# Altium footprint library O_JonF_DaveL.PcbLib: 331 footprints (part 15 of 21)
Each footprint in its own frame and in the unit in brackets; x right, y up, seen from the top. Pads: shape width x height; smd on the part's side, far side on the other; paste and mask are expansions set on the pad; w line width, h text height; cw(c..) or ccw(c..) is an arc to the next point about the centre after c.
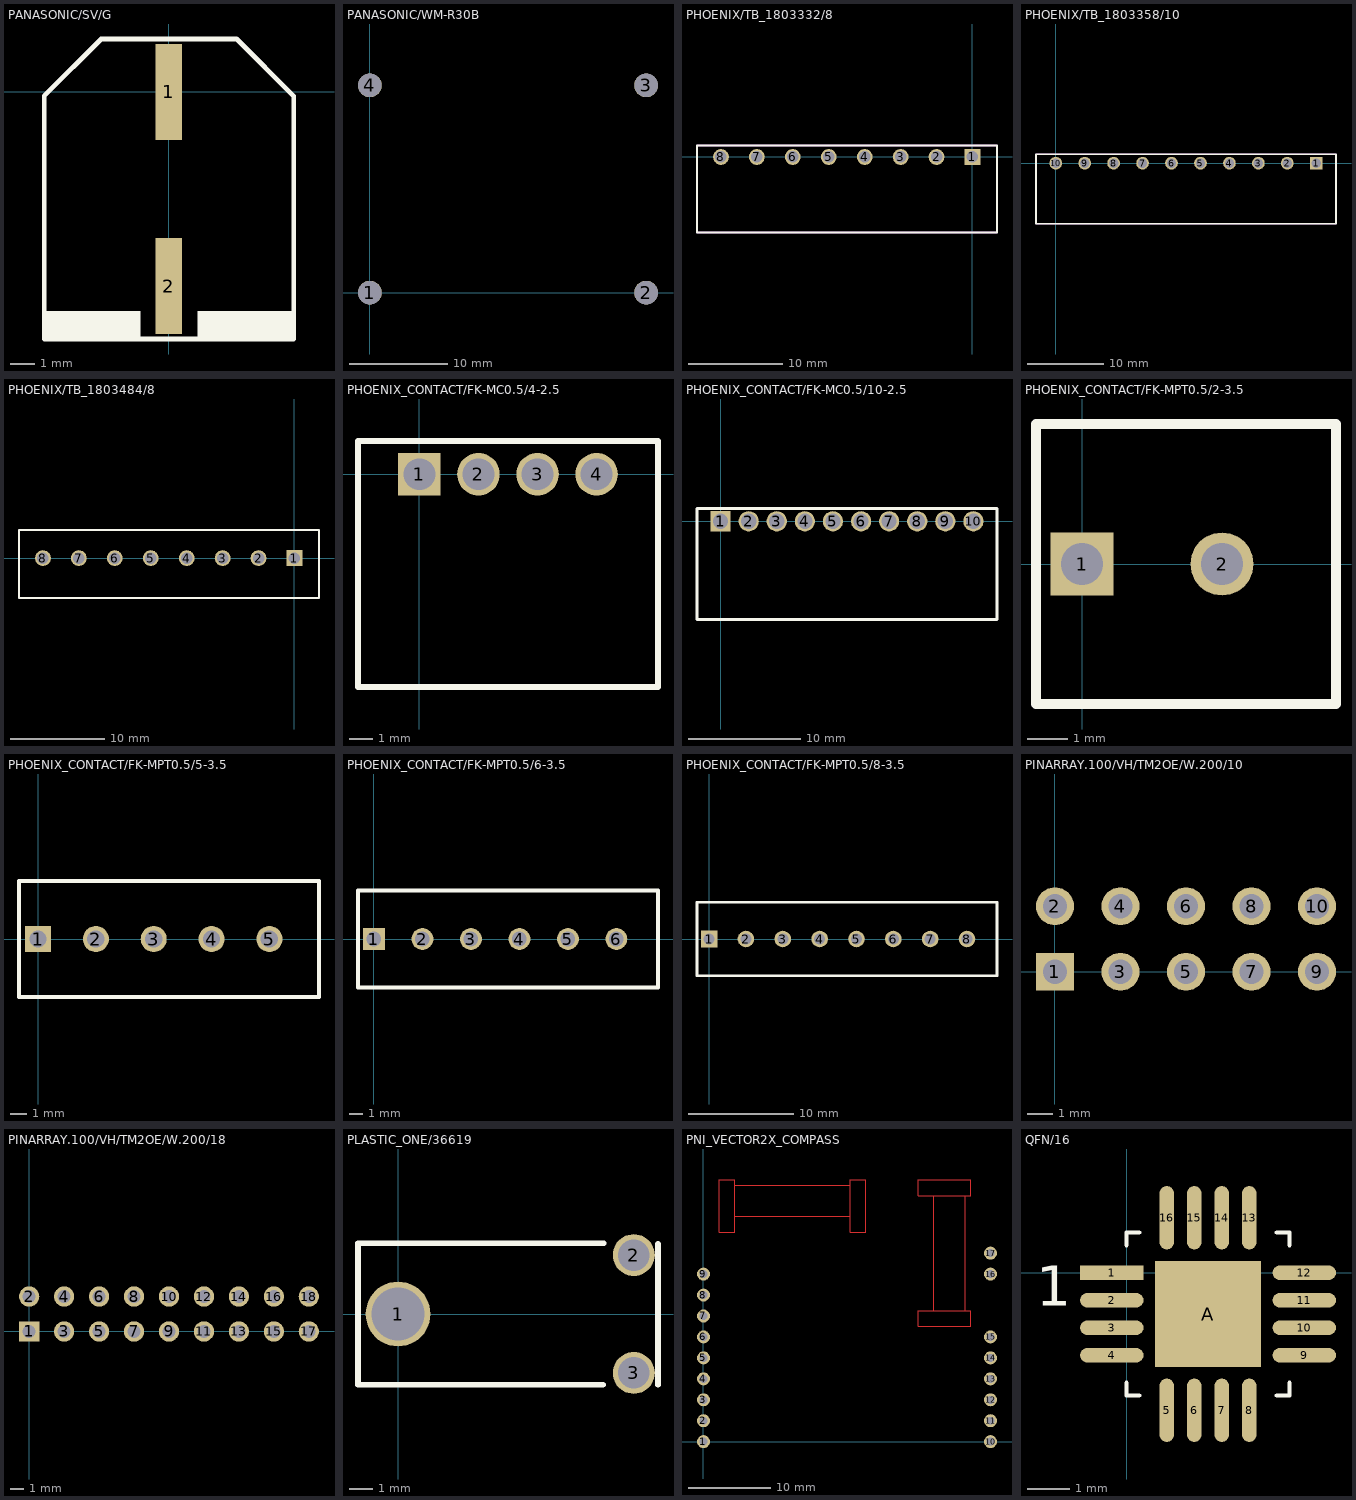
[diagram p14: the footprints below, top view; thin cyan lines are the x and y axes]

## PANASONIC/SV/G [mm]
pads (2):
  rect 1.1x4 smd: 1(0,0) 2(0,-8.1)
Top Overlay:
  region: -1.202,-9.137 -1.201,-9.137 -1.201,-10.198 -1.202,-10.198 -1.202,-10.199 -5.096,-10.199 -5.096,-10.198 -5.097,-10.198 -5.097,-9.137 -5.096,-9.137 -5.096,-9.136 -1.202,-9.136
  region: 5.099,-9.137 5.1,-9.137 5.1,-10.198 5.099,-10.198 5.099,-10.199 1.205,-10.199 1.205,-10.198 1.204,-10.198 1.204,-9.137 1.205,-9.137 1.205,-9.136 5.099,-9.136
  lines w0.2: -5.197,-10.3 -5.197,-0.166 -2.826,2.205 2.824,2.205 5.202,-0.173 5.202,-10.3 -5.197,-10.3
  text ".Designator" at -5.25,-12.12 h0.95
Mechanical 1:
  text ".Designator" at -5.25,-12.12 h0.95
  text ".Pattern" at -5.25,-16.488 h0.95
  text ".Comment" at -5.315,-13.533 h0.95

## PANASONIC/WM-R30B [mm]
pads (4):
  round 2.4 hole 2.4: 1(0,0) 2(28,0) 3(28,21) 4(0,21)
Top Overlay:
  text ".Designator" at 0,9 h1.5
Mechanical 1:
  text ".Designator" at 0,9 h1.5
  text ".Comment" at 0,6 h1.5
  text ".Pattern" at 0,0 h1.5

## PHOENIX/TB_1803332/8 [mil]
height 314.96
pads (8):
  rect 66x66 / inner round 66 / far side rect 66x66 hole 48: 1(0,0)
  round 66 hole 48: 2(-150,0) 3(-300,0) 4(-450,0) 5(-600,0) 6(-750,0) 7(-900,0) 8(-1050,0)
Top Overlay:
  lines w8: -1150,-314.97 -1150,47.25 102.37,47.25 102.37,-314.97 -1150,-314.97
Mechanical 1:
  lines w8: -1150,-314.97 -1150,47.25 102.37,47.25 102.37,-314.97 -1150,-314.97

## PHOENIX/TB_1803358/10 [mil]
pads (10):
  rect 66x66 / inner round 66 / far side rect 66x66 hole 48: 1(1350,0)
  round 66 hole 48: 2(1200,0) 3(1050,0) 4(900,0) 5(750,0) 6(600,0) 7(450,0) 8(300,0) 9(150,0) 10(0,0)
Top Overlay:
  lines w8: -102.37,-314.97 -102.37,47.25 1452.37,47.25 1452.37,-314.97 -102.37,-314.97
Mechanical 1:
  lines w8: -102.37,-314.97 -102.37,47.25 1452.37,47.25 1452.37,-314.97 -102.37,-314.97

## PHOENIX/TB_1803484/8 [mil]
height 314.96
pads (8):
  rect 66x66 / inner round 66 / far side rect 66x66 hole 48: 1(0,0)
  round 66 hole 48: 2(-150,0) 3(-300,0) 4(-450,0) 5(-600,0) 6(-750,0) 7(-900,0) 8(-1050,0)
Top Overlay:
  lines w8: -1150,-167.32 102.37,-167.32 102.37,118.11 -1150,118.11 -1150,-167.32
Mechanical 1:
  text "Plug Overhangs This Area" at -757.87,167.32 h20.63
  text "Wires Enter Close to this edge, perpendicular to the plane" at -1102.36,88.58 h20.63
  text "Screw Access is closer to this edge" at -866.14,-147.64 h20.63

## PHOENIX_CONTACT/FK-MC0.5/4-2.5 [mm]
pads (4):
  rect 1.8x1.8 hole 1.35: 1(0,0)
  round 1.8 hole 1.35: 2(2.5,0) 3(5,0) 4(7.5,0)
Top Overlay:
  lines w0.254: -2.6,-9 -2.6,1.4 10.1,1.4 10.1,-9 -2.6,-9
  text ".Designator" at -1,-6 h0.95
Mechanical 1:
  text ".Comment" at -1,-8 h0.95
  text ".Designator" at -1,-6 h0.95
  text ".Pattern" at -1,-12 h0.95

## PHOENIX_CONTACT/FK-MC0.5/10-2.5 [mm]
pads (10):
  rect 1.8x1.8 hole 1.35: 1(0,0)
  round 1.8 hole 1.35: 2(2.5,0) 3(5,0) 4(7.5,0) 5(10,0) 6(12.5,0) 7(15,0) 8(17.5,0) 9(20,0) 10(22.5,0)
Top Overlay:
  lines w0.254: -2.1,-8.75 24.6,-8.75 24.6,1.15 -2.1,1.15 -2.1,-8.75

## PHOENIX_CONTACT/FK-MPT0.5/2-3.5 [mil]
pads (2):
  rect 62x62 hole 41.34: 1(0,0)
  round 62 hole 41.34: 2(137.8,0)
Top Overlay:
  lines w10: -45.28,-137.8 -45.28,137.8 250,137.8 250,-137.8 -45.28,-137.8
  text ".Designator" at -39.37,-236.22 h37.5
Mechanical 1:
  text ".Designator" at -39.37,-236.22 h37.5
  text ".Comment" at -39.37,-314.96 h37.5
  text ".Pattern" at -39.37,-472.44 h37.5

## PHOENIX_CONTACT/FK-MPT0.5/5-3.5 [mil]
pads (5):
  rect 62x62 hole 41.34: 1(0,0)
  round 62 hole 41.34: 2(137.8,0) 3(275.59,0) 4(413.39,0) 5(551.18,0)
Top Overlay:
  lines w10: -45.28,-137.8 669.29,-137.8 669.29,137.8 -45.28,137.8 -45.28,-137.8
  text ".Designator" at -39.37,-236.22 h37.5
Mechanical 1:
  text ".Designator" at -39.37,-236.22 h37.5
  text ".Comment" at -39.37,-314.96 h37.5
  text ".Pattern" at -39.37,-472.44 h37.5

## PHOENIX_CONTACT/FK-MPT0.5/6-3.5 [mil]
pads (6):
  rect 62x62 hole 41.34: 1(0,0)
  round 62 hole 41.34: 2(137.8,0) 3(275.59,0) 4(413.39,0) 5(551.18,0) 6(688.98,0)
Top Overlay:
  lines w10: -45.28,-137.8 -45.28,137.8 807.09,137.8 807.09,-137.8 -45.28,-137.8
  text ".Designator" at -39.37,-236.22 h37.5
Mechanical 1:
  text ".Pattern" at -39.37,-472.44 h37.5
  text ".Comment" at -39.37,-314.96 h37.5
  text ".Designator" at -39.37,-236.22 h37.5

## PHOENIX_CONTACT/FK-MPT0.5/8-3.5 [mil]
pads (8):
  rect 62x62 hole 41.34: 1(0,0)
  round 62 hole 41.34: 2(137.8,0) 3(275.59,0) 4(413.39,0) 5(551.18,0) 6(688.98,0) 7(826.77,0) 8(964.57,0)
Top Overlay:
  lines w10: -45.28,-137.8 -45.28,137.8 1076.77,137.8 1076.77,-137.8 -45.28,-137.8

## PINARRAY.100/VH/TM2OE/W.200/10 [mil]
pads (10):
  rect 58x58 hole 37: 1(0,0)
  round 58 hole 37: 2(0,100) 3(100,0) 4(100,100) 5(200,0) 6(200,100) 7(300,0) 8(300,100) 9(400,0) 10(400,100)
Mechanical 1:
  text ".Comment" at -34.33,25.38 h37.5

## PINARRAY.100/VH/TM2OE/W.200/18 [mil]
pads (18):
  rect 58x58 hole 37: 1(0,0)
  round 58 hole 37: 2(0,100) 3(100,0) 4(100,100) 5(200,0) 6(200,100) 7(300,0) 8(300,100) 9(400,0) 10(400,100) 11(500,0) 12(500,100) 13(600,0) 14(600,100) 15(700,0) 16(700,100) 17(800,0) 18(800,100)
Mechanical 1:
  text ".Comment" at -34.33,25.38 h37.5

## PLASTIC_ONE/36619 [mil]
pads (3):
  round 110 hole 90: 1(0,0)
  round 71 hole 53.5: 2(400,100) 3(400,-100)
Top Overlay:
  lines w10: 348,-120 -68,-120 -68,120 349,120 ; 441,-120 441,119
  text ".Designator" at -69,-193.5 h37.5
Mechanical 1:
  text ".Designator" at -69,-193.5 h37.5
  text ".Comment" at -30,-1 h37.5
  text ".Pattern" at -19,-103 h37.5

## PNI_VECTOR2X_COMPASS [mil]
pads (17):
  round 62 hole 38: 1(0,0) 2(0,100) 3(0,200) 4(0,300) 5(0,400) 6(0,500) 7(0,600) 8(0,700) 9(0,800) 10(1370,0) 11(1370,100) 12(1370,200) 13(1370,300) 14(1370,400) 15(1370,500) 16(1370,800) 17(1370,900)
Top Layer:
  lines w1: 75,1000 150,1000 150,1250 75,1250 75,1000 ; 150,1075 150,1225 700,1225 700,1075 150,1075 ; 700,1000 775,1000 775,1250 700,1250 700,1000 ; 1025,550 1025,625 1275,625 1275,550 1025,550 ; 1025,1175 1275,1175 1275,1250 1025,1250 1025,1175 ; 1100,625 1100,1175 1250,1175 1250,625 1100,625
Top Overlay:
  text ".Designator" at 175,762.5 h56.25
Mechanical 1:
  text ".Designator" at 175,762.5 h56.25
  text ".Comment" at 175,650 h56.25
  text ".Pattern" at 200,-75 h56.25

## QFN/16 [mm]
pads (17):
  rect 1.5x0.35 smd: 1(-0.35,0)
  oval 1.5x0.35 smd: 2(-0.35,-0.65) 3(-0.35,-1.3) 4(-0.35,-1.95) 9(4.2,-1.95) 10(4.2,-1.3) 11(4.2,-0.65) 12(4.2,0)
  oval 0.35x1.5 smd: 5(0.95,-3.25) 6(1.6,-3.25) 7(2.25,-3.25) 8(2.9,-3.25) 13(2.9,1.3) 14(2.25,1.3) 15(1.6,1.3) 16(0.95,1.3)
  rect 2.5x2.5 smd: A(1.925,-0.975)
Top Overlay:
  lines w0.1: 0,-2.6 0,-2.9 0.3,-2.9 ; 0,0.65 0,0.95 0.3,0.95 ; 3.55,-2.9 3.85,-2.9 3.85,-2.6 ; 3.55,0.95 3.85,0.95 3.85,0.65
  text "." at -0.479,0.783 h0.95
  text "1" at -2.142,-0.781 h0.95
  text ".Designator" at -0.984,-5.94 h0.95
Mechanical 1:
  text ".Pattern" at -1.042,-10.25 h0.95
  text ".Designator" at -0.984,-5.94 h0.95
  text ".Comment" at -1.042,-7.377 h0.95